# Altium schematic symbol library Common.SchLib: 156 symbols
Pins are listed as number, name and electrical type; pins without a type are passive.

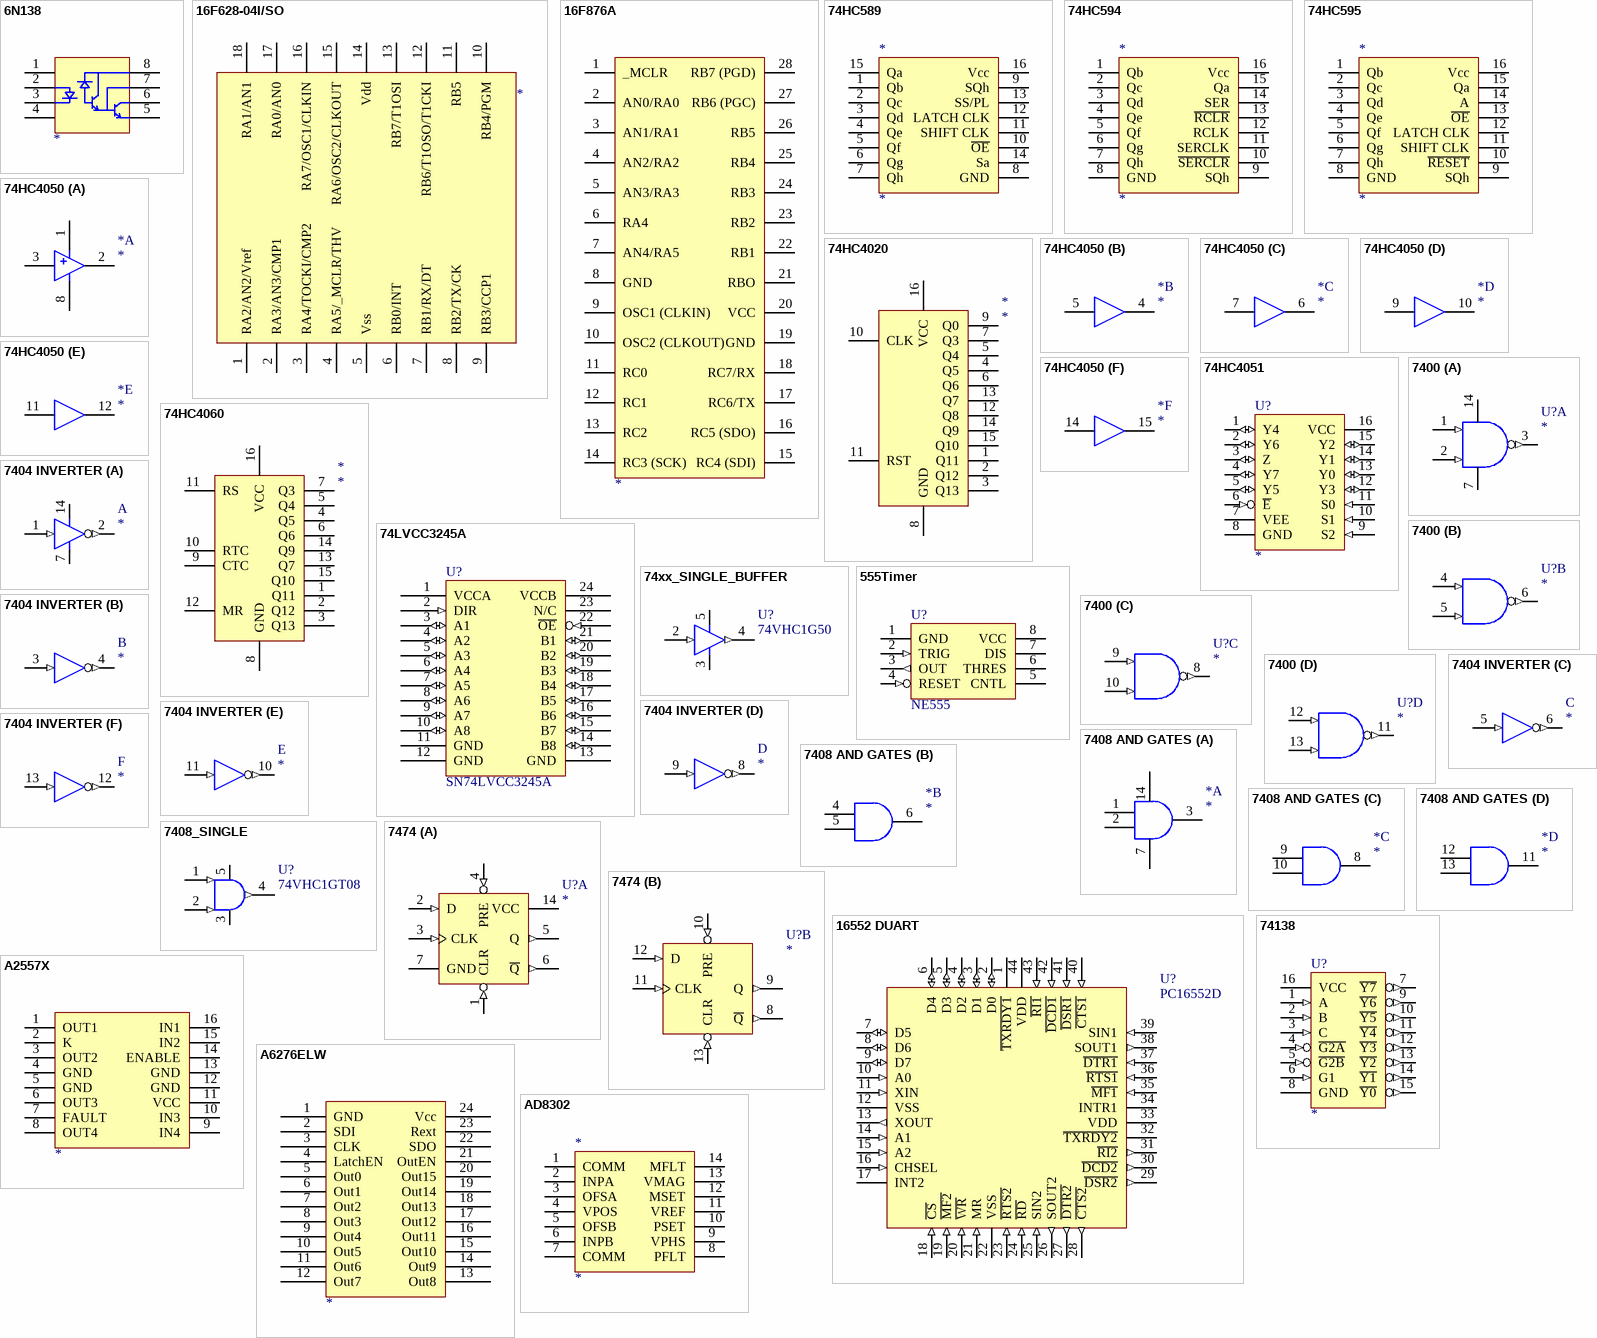
[diagram p0: symbols 6N138 to AD8302]

## 6N138
designator ?
pins: 1, 2, 3, 4, 5, 6, 7, 8

## 16F628-04I/SO
designator ?
pins: 1 RA2/AN2/Vref, 2 RA3/AN3/CMP1, 3 RA4/TOCKI/CMP2, 4 RA5/_MCLR/THV, 5 Vss, 6 RB0/INT, 7 RB1/RX/DT, 8 RB2/TX/CK, 9 RB3/CCP1, 10 RB4/PGM, 11 RB5, 12 RB6/T1OSO/T1CKI, 13 RB7/T1OSI, 14 Vdd, 15 RA6/OSC2/CLKOUT, 16 RA7/OSC1/CLKIN, 17 RA0/AN0, 18 RA1/AN1

## 16F876A
designator ?
pins: 1 _MCLR, 2 AN0/RA0, 3 AN1/RA1, 4 AN2/RA2, 5 AN3/RA3, 6 RA4, 7 AN4/RA5, 8 GND, 9 OSC1 (CLKIN), 10 OSC2 (CLKOUT), 11 RC0, 12 RC1, 13 RC2, 14 RC3 (SCK), 15 RC4 (SDI), 16 RC5 (SDO), 17 RC6/TX, 18 RC7/RX, 19 GND, 20 VCC, 21 RBO, 22 RB1, 23 RB2, 24 RB3, 25 RB4, 26 RB5, 27 RB6 (PGC), 28 RB7 (PGD)

## 74HC589
designator *
pins: 1 Qb, 2 Qc, 3 Qd, 4 Qe, 5 Qf, 6 Qg, 7 Qh, 8 GND, 9 SQh, 10 ~{OE}, 11 SHIFT CLK, 12 LATCH CLK, 13 SS/PL, 14 Sa, 15 Qa, 16 Vcc

## 74HC594
designator *
pins: 1 Qb, 2 Qc, 3 Qd, 4 Qe, 5 Qf, 6 Qg, 7 Qh, 8 GND, 9 SQh, 10 ~{SERCLR}, 11 SERCLK, 12 RCLK, 13 ~{RCLR}, 14 SER, 15 Qa, 16 Vcc

## 74HC595
designator *
pins: 1 Qb, 2 Qc, 3 Qd, 4 Qe, 5 Qf, 6 Qg, 7 Qh, 8 GND, 9 SQh, 10 ~{RESET}, 11 SHIFT CLK, 12 LATCH CLK, 13 ~{OE}, 14 A, 15 Qa, 16 Vcc

## 74HC4020
designator *
pins: 1 Q11, 2 Q12, 3 Q13, 4 Q5, 5 Q4, 6 Q6, 7 Q3, 8 GND, 9 Q0, 10 CLK, 11 RST, 12 Q8, 13 Q7, 14 Q9, 15 Q10, 16 VCC

## 74HC4050
designator *
part A pins: 1, 2, 3, 8
part B pins: 4, 5
part C pins: 6, 7
part D pins: 9, 10
part E pins: 11, 12
part F pins: 14, 15

## 74HC4051
designator U?
PARTNO: CHP-NEW00; VALUE: 74HC4061
footprint Model Name (Footprint not found)
pins: 1 Y4 (io), 2 Y6 (io), 3 Z (io), 4 Y7 (io), 5 Y5 (io), 6 ~{E} (in), 7 VEE (power), 8 GND (power), 9 S2 (in), 10 S1 (in), 11 S0 (in), 12 Y3 (io), 13 Y0 (io), 14 Y1 (io), 15 Y2 (io), 16 VCC (power)

## 74HC4060
designator *
pins: 1 Q11, 2 Q12, 3 Q13, 4 Q5, 5 Q4, 6 Q6, 7 Q3, 8 GND, 9 CTC, 10 RTC, 11 RS, 12 MR, 13 Q7, 14 Q9, 15 Q10, 16 VCC

## 74LVCC3245A
designator U?, comment SN74LVCC3245A
Dual Supply Buffer; VALUE: SN74LVCC3245A; PARTNO: SN74LVCC3245A
pins: 1 VCCA (power), 2 DIR (in), 3 A1 (io), 4 A2 (io), 5 A3 (io), 6 A4 (io), 7 A5 (io), 8 A6 (io), 9 A7 (io), 10 A8 (io), 11 GND (power), 12 GND (power), 13 GND (power), 14 B8 (io), 15 B7 (io), 16 B6 (io), 17 B5 (io), 18 B4 (io), 19 B3 (io), 20 B2 (io), 21 B1 (io), 22 ~{OE} (in), 23 N/C, 24 VCCB (power)

## 74xx_SINGLE_BUFFER
designator U?, comment 74VHC1G50
Single non-inverting buffer; PART NO: 74VHC1G50; VALUE: 74VHC1G50
pins: 2 INA (in), 3 GND (power), 4 OUTY (out), 5 VCC (power)

## 555Timer
designator U?, comment NE555
PARTNO: CHP-????; VALUE: NE555
pins: 1 GND (power), 2 TRIG (in), 3 OUT (out), 4 RESET (in), 5 CNTL, 6 THRES, 7 DIS (oc), 8 VCC (power)

## 7400
designator U?
footprint SO14
part A pins: 1 A (in), 2 B (in), 3 Y (out), 7 GND (power), 14 VCC (power)
part B pins: 4 A (in), 5 B (in), 6 Y (out)
part C pins: 8 Y (out), 9 A (in), 10 B (in)
part D pins: 11 Y (out), 12 A (in), 13 B (in)

## 7404 INVERTER
designator ?
part A pins: 1 IN (in), 2 OUT (out), 7 GND (power), 14 VCC (power)
part B pins: 3 IN (in), 4 OUT (out)
part C pins: 5 IN (in), 6 OUT (out)
part D pins: 8 OUT (out), 9 IN (in)
part E pins: 10 OUT (out), 11 IN (in)
part F pins: 12 OUT (out), 13 IN (in)

## 7408 AND GATES
designator *
part A pins: 1, 2, 3, 7 GND, 14 VCC
part B pins: 4 1, 5 2, 6 3
part C pins: 8 3, 9 1, 10 2
part D pins: 11 3, 12 1, 13 2

## 7408_SINGLE
designator U?, comment value 74VHC1GT08  (hidden comment: Single And Gate)
PART NO: NEW
footprint SOT23-5
pins: 1 INB (in), 2 INA (in), 3 GND (power), 4 OUTY (out), 5 VCC (power)

## 7474
designator U?
74xx74 Flip Flop
footprint SO14
footprint DIP14
part A pins: 1 CLR (in), 2 D (in), 3 CLK (in), 4 PRE (in), 5 Q (out), 6 ~{Q} (out), 7 GND (power), 14 VCC (power)
part B pins: 8 ~{Q} (out), 9 Q (out), 10 PRE (in), 11 CLK (in), 12 D (in), 13 CLR (in)

## 16552 DUART
designator U?, comment PC16552D
PARTNO: CHP-????; VALUE: PC16552D
pins: 1 ~{TXRDY1} (oc), 2 D0 (io), 3 D1 (io), 4 D2 (io), 5 D3 (io), 6 D4 (io), 7 D5 (io), 8 D6 (io), 9 D7 (io), 10 A0 (in), 11 XIN (in), 12 VSS (power), 13 XOUT (out), 14 A1 (in), 15 A2 (in), 16 CHSEL (in), 17 INT2 (oc), 18 ~{CS} (in), 19 ~{MF2} (in), 20 ~{WR} (in), 21 MR (in), 22 VSS (power), 23 ~{RTS2} (in), 24 ~{RD} (in), 25 SIN2 (in), 26 SOUT2 (out), 27 ~{DTR2} (out), 28 ~{CTS2} (out), 29 ~{DSR2} (out), 30 ~{DCD2} (out), 31 ~{RI2} (out), 32 ~{TXRDY2} (oc), 33 VDD (power), 34 INTR1 (oc), 35 ~{MF1} (in), 36 ~{RTS1} (in), 37 ~{DTR1} (in), 38 SOUT1 (out), 39 SIN1 (in), 40 ~{CTS1} (in), 41 ~{DSR1} (in), 42 ~{DCD1} (in), 43 ~{RI1} (in), 44 VDD (power)

## 74138
designator U?
footprint TSSOP16
pins: 1 A (in), 2 B (in), 3 C (in), 4 ~{G2A} (in), 5 ~{G2B} (in), 6 G1 (in), 7 ~{Y7} (out), 8 GND (power), 9 ~{Y6} (out), 10 ~{Y5} (out), 11 ~{Y4} (out), 12 ~{Y3} (out), 13 ~{Y2} (out), 14 ~{Y1} (out), 15 ~{Y0} (out), 16 VCC (power)

## A2557X
designator ?
pins: 1 OUT1, 2 K, 3 OUT2, 4 GND, 5 GND, 6 OUT3, 7 FAULT, 8 OUT4, 9 IN4, 10 IN3, 11 VCC, 12 GND, 13 GND, 14 ENABLE, 15 IN2, 16 IN1

## A6276ELW
designator ?
pins: 1 GND, 2 SDI, 3 CLK, 4 LatchEN, 5 Out0, 6 Out1, 7 Out2, 8 Out3, 9 Out4, 10 Out5, 11 Out6, 12 Out7, 13 Out8, 14 Out9, 15 Out10, 16 Out11, 17 Out12, 18 Out13, 19 Out14, 20 Out15, 21 OutEN, 22 SDO, 23 Rext, 24 Vcc

## AD8302
designator *
pins: 1 COMM, 2 INPA, 3 OFSA, 4 VPOS, 5 OFSB, 6 INPB, 7 COMM, 8 PFLT, 9 VPHS, 10 PSET, 11 VREF, 12 MSET, 13 VMAG, 14 MFLT

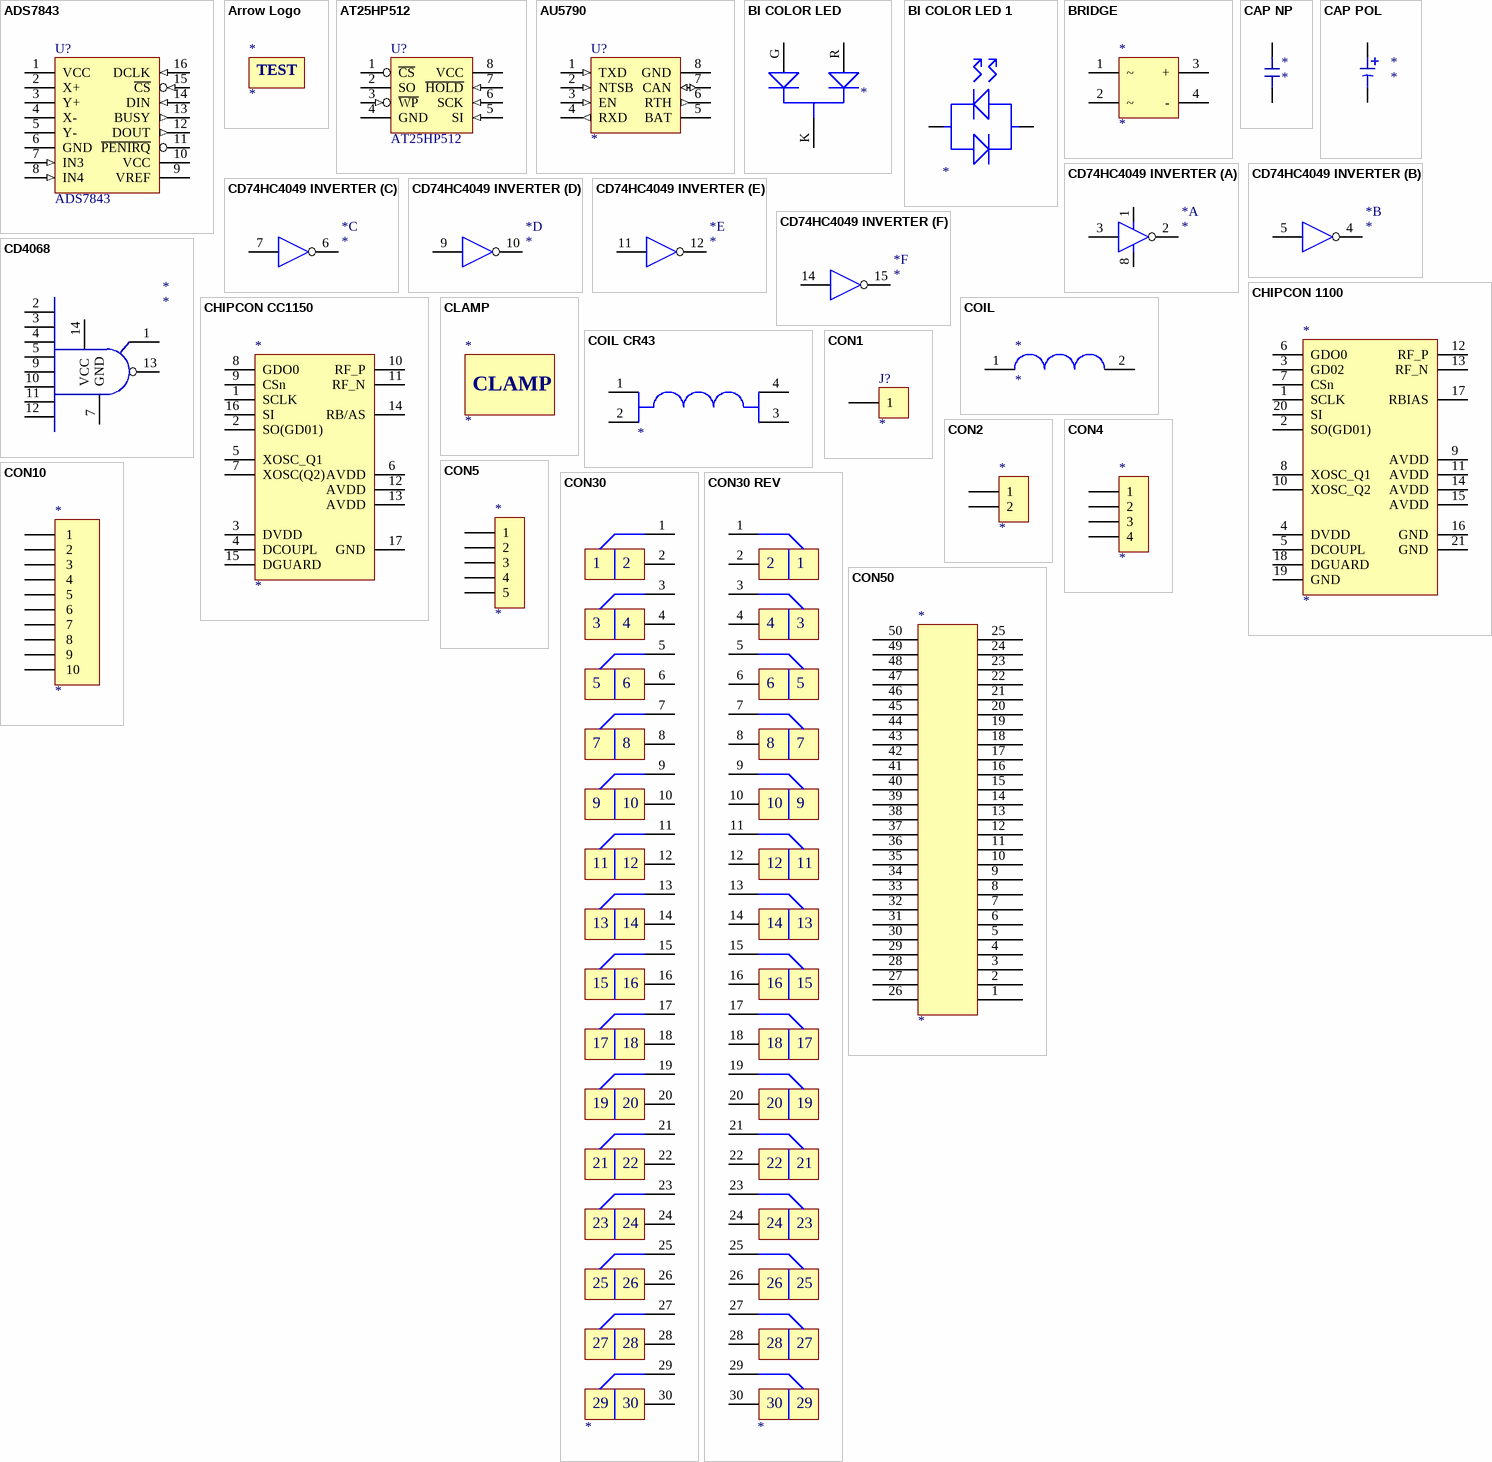
[diagram p1: symbols ADS7843 to CON50]

## ADS7843
designator U?
Touch Screen Controller; VALUE: ADS7843; PARNTO: ADS7843
pins: 1 VCC (power), 2 X+, 3 Y+, 4 X-, 5 Y-, 6 GND (power), 7 IN3 (in), 8 IN4 (in), 9 VREF (power), 10 VCC (power), 11 ~{PENIRQ} (oc), 12 DOUT (out), 13 BUSY (out), 14 DIN (in), 15 ~{CS} (in), 16 DCLK (in)

## Arrow Logo
designator *
text: TEST

## AT25HP512
designator U?
PARTNO: CHP-????; VALUE: AT25HP512
footprint SO8_012105 (SMT)
pins: 1 ~{CS}, 2 SO (oc), 3 ~{WP} (in), 4 GND (power), 5 SI (in), 6 SCK (in), 7 ~{HOLD} (in), 8 VCC (power)

## AU5790
designator U?
footprint SO8
pins: 1 TXD (in), 2 NTSB (in), 3 EN (in), 4 RXD (out), 5 BAT (oc), 6 RTH (out), 7 CAN (io), 8 GND (power)

## BI COLOR LED
designator ?
pins: G, K, R

## BI COLOR LED 1
designator ?
pins: 1, 2

## BRIDGE
designator *
pins: 1 ~, 2 ~, 3 +, 4 -

## CAP NP
designator *
pins: 1, 2

## CAP POL
designator *
pins: 1, 2

## CD74HC4049 INVERTER
designator *
part A pins: 1 VCC (power), 2 OUT, 3 IN, 8 GND (power)
part B pins: 4 OUT, 5 IN
part C pins: 6 OUT, 7 IN
part D pins: 9 IN, 10 OUT
part E pins: 11 IN, 12 OUT
part F pins: 14 IN, 15 OUT

## CD4068
designator *
pins: 1 A, 2 A, 3 A, 4 A, 5 A, 7 GND, 9 A, 10 A, 11 A, 12 A, 13 A, 14 VCC

## CHIPCON 1100
designator *
pins: 1 SCLK, 2 SO(GD01), 3 GD02, 4 DVDD, 5 DCOUPL, 6 GDO0, 7 CSn, 8 XOSC_Q1, 9 AVDD, 10 XOSC_Q2, 11 AVDD, 12 RF_P, 13 RF_N, 14 AVDD, 15 AVDD, 16 GND, 17 RBIAS, 18 DGUARD, 19 GND, 20 SI, 21 GND

## CHIPCON CC1150
designator *
pins: 1 SCLK, 2 SO(GD01), 3 DVDD, 4 DCOUPL, 5 XOSC_Q1, 6 AVDD, 7 XOSC(Q2), 8 GDO0, 9 CSn, 10 RF_P, 11 RF_N, 12 AVDD, 13 AVDD, 14 RB/AS, 15 DGUARD, 16 SI, 17 GND

## CLAMP
designator *
footprint CLAMP MCMASTER CARR 5126A21 (TH)

## COIL
designator *
pins: 1, 2

## COIL CR43
designator ?
pins: 1, 2, 3, 4

## CON1
designator J?
Connector
pins: 1

## CON2
designator *
pins: 1, 2

## CON4
designator *
pins: 1, 2, 3, 4

## CON5
designator *
pins: 1, 2, 3, 4, 5

## CON10
designator *
pins: 1  1, 2  2, 3  3, 4  4, 5  5, 6  6, 7  7, 8  8, 9  9, 10  10

## CON30
designator ?
pins: 1, 2, 3, 4, 5, 6, 7, 8, 9, 10, 11, 12, 13, 14, 15, 16, 17, 18, 19, 20, 21, 22, 23, 24, 25, 26, 27, 28, 29, 30

## CON30 REV
designator ?
pins: 1, 2, 3, 4, 5, 6, 7, 8, 9, 10, 11, 12, 13, 14, 15, 16, 17, 18, 19, 20, 21, 22, 23, 24, 25, 26, 27, 28, 29, 30

## CON50
designator *
pins: 1, 2, 3, 4, 5, 6, 7, 8, 9, 10, 11, 12, 13, 14, 15, 16, 17, 18, 19, 20, 21, 22, 23, 24, 25, 26, 27, 28, 29, 30, 31, 32, 33, 34, 35, 36, 37, 38, 39, 40, 41, 42, 43, 44, 45, 46, 47, 48, 49, 50

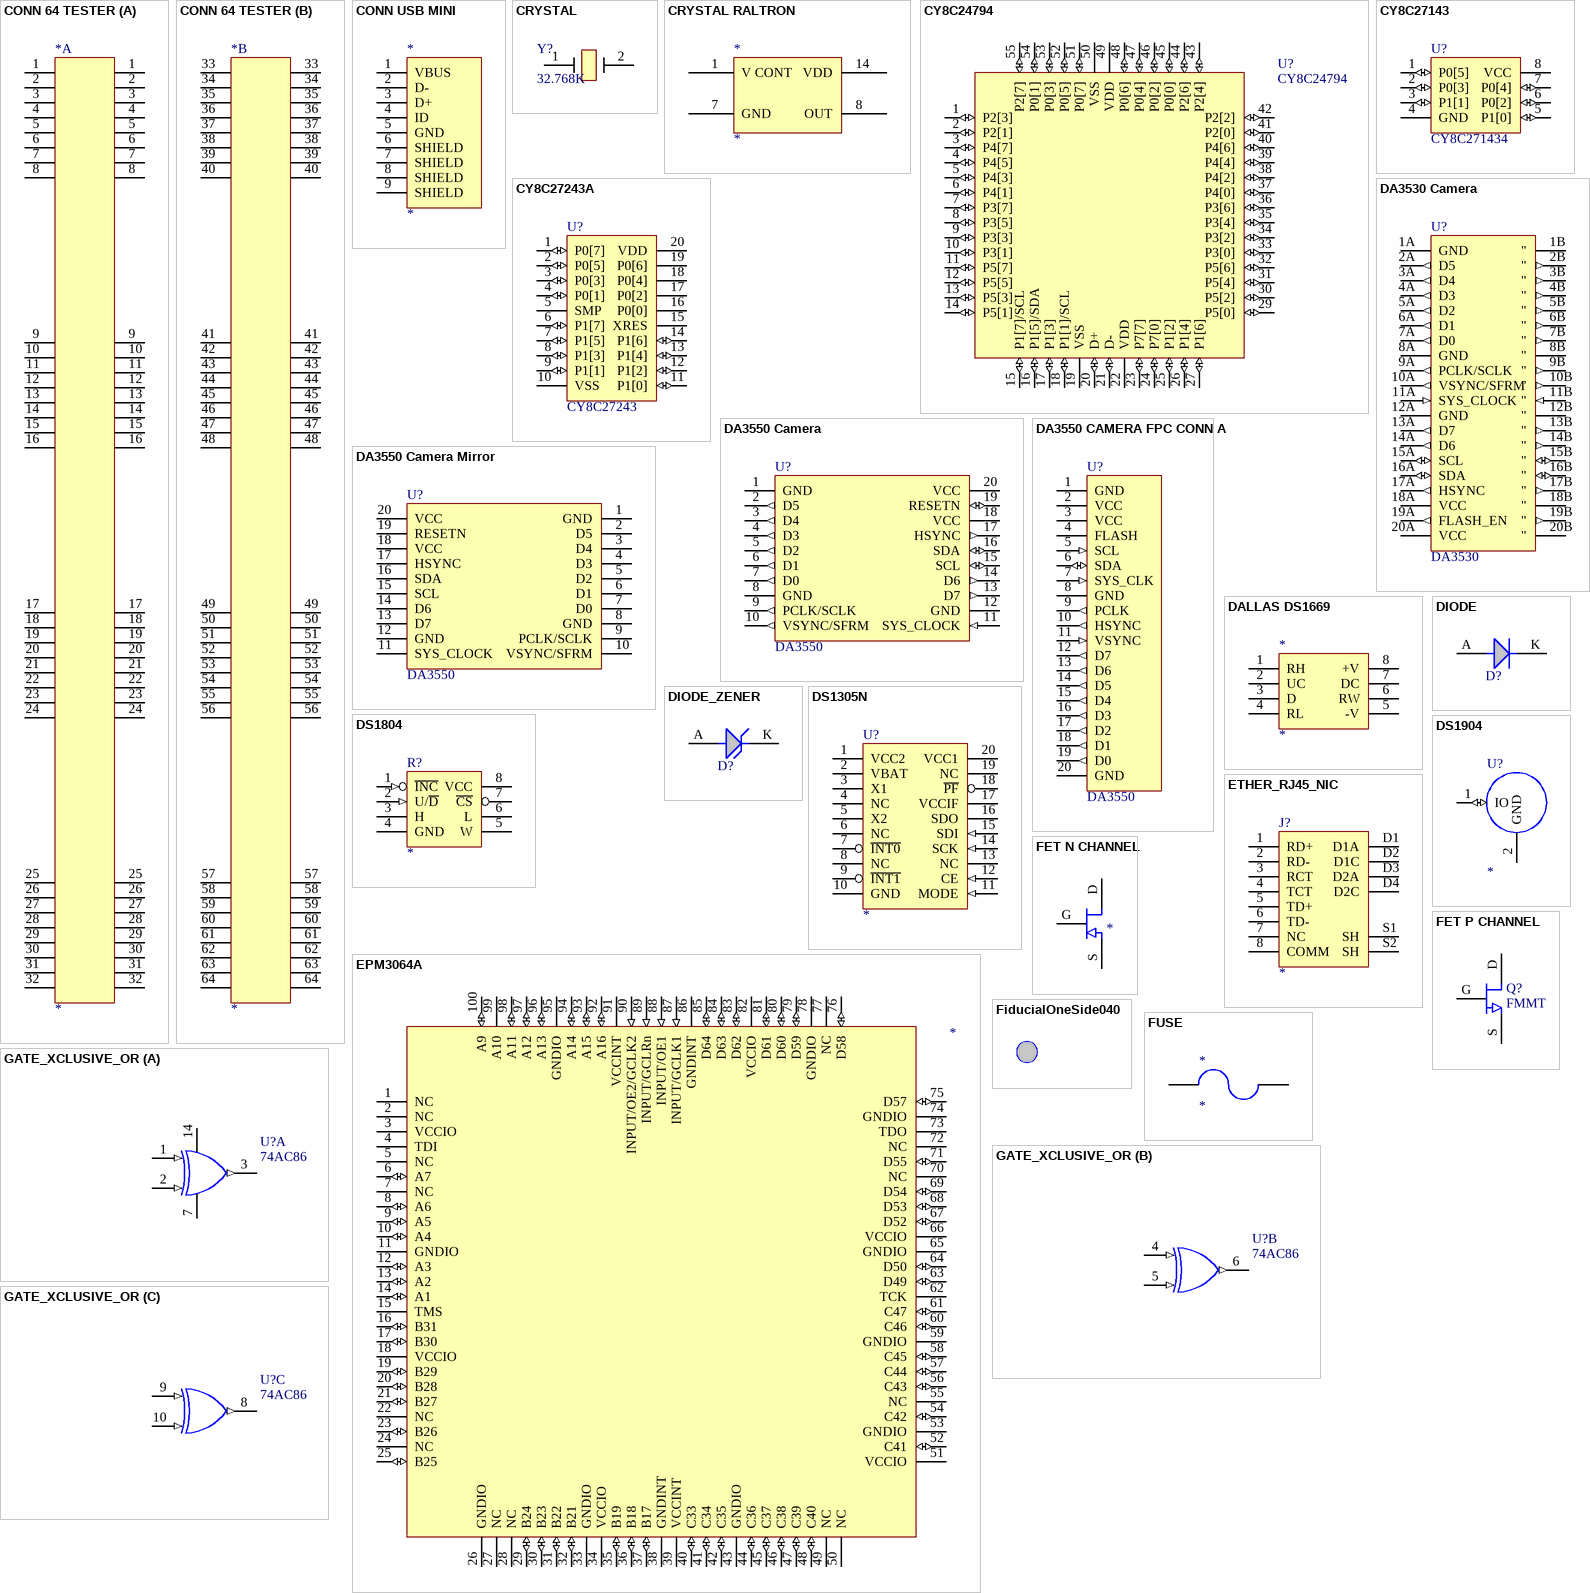
[diagram p2: symbols CONN 64 TESTER to GATE_XCLUSIVE_OR]

## CONN 64 TESTER
designator *
part A pins: 1, 1, 2, 2, 3, 3, 4, 4, 5, 5, 6, 6, 7, 7, 8, 8, 9, 9, 10, 10, 11, 11, 12, 12, 13, 13, 14, 14, 15, 15, 16, 16, 17, 17, 18, 18, 19, 19, 20, 20, 21, 21, 22, 22, 23, 23, 24, 24, 25, 25, 26, 26, 27, 27, 28, 28, 29, 29, 30, 30, 31, 31, 32, 32
part B pins: 33, 33, 34, 34, 35, 35, 36, 36, 37, 37, 38, 38, 39, 39, 40, 40, 41, 41, 42, 42, 43, 43, 44, 44, 45, 45, 46, 46, 47, 47, 48, 48, 49, 49, 50, 50, 51, 51, 52, 52, 53, 53, 54, 54, 55, 55, 56, 56, 57, 57, 58, 58, 59, 59, 60, 60, 61, 61, 62, 62, 63, 63, 64, 64

## CONN USB MINI
designator *
pins: 1 VBUS, 2 D-, 3 D+, 4 ID, 5 GND, 6 SHIELD, 7 SHIELD, 8 SHIELD, 9 SHIELD

## CRYSTAL
designator Y?, comment 32.768K
VALUE: 32.768K
footprint Crystal32k_2mmx1.2mm_112211 (SM)
pins: 1, 2

## CRYSTAL RALTRON
designator *
pins: 1 V CONT, 7 GND, 8 OUT, 14 VDD

## CY8C24794
designator U?
PARTNO: CHP-????; VALUE: CY8C24794
pins: 1 P2[3] (io), 2 P2[1] (io), 3 P4[7] (io), 4 P4[5] (io), 5 P4[3] (io), 6 P4[1] (io), 7 P3[7] (io), 8 P3[5] (io), 9 P3[3] (io), 10 P3[1] (io), 11 P5[7] (io), 12 P5[5] (io), 13 P5[3] (io), 14 P5[1] (io), 15 P1[7]/SCL (io), 16 P1[5]/SDA (io), 17 P1[3] (io), 18 P1[1]/SCL (io), 19 VSS (power), 20 D+ (io), 21 D- (io), 22 VDD (power), 23 P7[7] (io), 24 P7[0] (io), 25 P1[2] (io), 26 P1[4] (io), 27 P1[6] (io), 29 P5[0] (io), 30 P5[2] (io), 31 P5[4] (io), 32 P5[6] (io), 33 P3[0] (io), 34 P3[2] (io), 35 P3[4] (io), 36 P3[6] (io), 37 P4[0] (io), 38 P4[2] (io), 39 P4[4] (io), 40 P4[6] (io), 41 P2[0] (io), 42 P2[2] (io), 43 P2[4] (io), 44 P2[6] (io), 45 P0[0] (io), 46 P0[2] (io), 47 P0[4] (io), 48 P0[6] (io), 49 VDD (power), 50 VSS (power), 51 P0[7] (io), 52 P0[5] (io), 53 P0[3] (io), 54 P0[1] (io), 55 P2[7] (io)

## CY8C27143
designator U?  value CY8C271434  (hidden comment: CY8C27143)
PART NO: CHP-1176
pins: 1 P0[5] (io), 2 P0[3] (io), 3 P1[1] (io), 4 GND (power), 5 P1[0] (io), 6 P0[2] (io), 7 P0[4] (io), 8 VCC (power)

## CY8C27243A
designator U?, comment CY8C27243
PART NO: CY8C27243; VALUE: CY8C27243
footprint TSSOP20
footprint SO20
pins: 1 P0[7] (io), 2 P0[5] (io), 3 P0[3] (io), 4 P0[1] (io), 5 SMP, 6 P1[7] (io), 7 P1[5] (io), 8 P1[3] (io), 9 P1[1] (io), 10 VSS (power), 11 P1[0] (io), 12 P1[2] (io), 13 P1[4] (io), 14 P1[6] (io), 15 XRES, 16 P0[0], 17 P0[2], 18 P0[4], 19 P0[6], 20 VDD (power)

## DA3530 Camera
designator U?, comment DA3530
VALUE: DA3530; PARTNO: DA3530
pins: 1A GND (power), 1B " (power), 2A D5 (out), 2B " (out), 3A D4 (out), 3B " (out), 4A D3 (out), 4B " (out), 5A D2 (out), 5B " (out), 6A D1 (out), 6B " (out), 7A D0 (out), 7B " (out), 8A GND (power), 8B " (power), 9A PCLK/SCLK (out), 9B " (out), 10A VSYNC/SFRM (out), 10B " (out), 11A SYS_CLOCK (in), 11B " (in), 12A GND (power), 12B " (power), 13A D7 (out), 13B " (out), 14A D6 (out), 14B " (out), 15A SCL (io), 15B " (io), 16A SDA (io), 16B " (io), 17A HSYNC (out), 17B " (out), 18A VCC (power), 18B " (power), 19A FLASH_EN (out), 19B " (out), 20A VCC (power), 20B " (power)

## DA3550 Camera
designator U?, comment DA3550
PARTNO: DA3550; VALUE: DA3550
pins: 1 GND (power), 2 D5 (out), 3 D4 (out), 4 D3 (out), 5 D2 (out), 6 D1 (out), 7 D0 (out), 8 GND (power), 9 PCLK/SCLK (out), 10 VSYNC/SFRM (out), 11 SYS_CLOCK (in), 12 GND (power), 13 D7 (out), 14 D6 (out), 15 SCL (io), 16 SDA (io), 17 HSYNC (out), 18 VCC (power), 19 RESETN (io), 20 VCC (power)

## DA3550 CAMERA FPC CONN A
designator U?, comment DA3550
PARTNO: DA3550; VALUE: DA3550
footprint FPC20_0.5 (Footprint not found)
pins: 1 GND (power), 2 VCC (power), 3 VCC (power), 4 FLASH, 5 SCL (in), 6 SDA (io), 7 SYS_CLK (in), 8 GND (power), 9 PCLK (out), 10 HSYNC (out), 11 VSYNC (in), 12 D7 (out), 13 D6 (out), 14 D5 (out), 15 D4 (out), 16 D3 (out), 17 D2 (out), 18 D1 (out), 19 D0 (out), 20 GND (power)

## DA3550 Camera Mirror
designator U?, comment DA3550
PARTNO: DA3550; VALUE: DA3550
pins: 1 GND (power), 2 D5, 3 D4, 4 D3, 5 D2, 6 D1, 7 D0, 8 GND (power), 9 PCLK/SCLK, 10 VSYNC/SFRM, 11 SYS_CLOCK, 12 GND (power), 13 D7, 14 D6, 15 SCL, 16 SDA, 17 HSYNC, 18 VCC (power), 19 RESETN, 20 VCC (power)

## DALLAS DS1669
designator *
pins: 1 RH, 2 UC, 3 D, 4 RL, 5 -V, 6 RW, 7 DC, 8 +V

## DIODE
designator D?  (value not drawn)
pins: A, K

## DIODE_ZENER
designator D?, comment DIODE  (value not drawn)
pins: A, K

## DS1305N
designator U?
footprint TSSOP20
pins: 1 VCC2 (power), 2 VBAT (power), 3 X1, 4 NC, 5 X2, 6 NC, 7 ~{INT0} (oc), 8 NC, 9 ~{INT1} (oc), 10 GND (power), 11 MODE (in), 12 CE (in), 13 NC, 14 SCK (in), 15 SDI (in), 16 SDO (hiz), 17 VCCIF (power), 18 ~{PF} (oc), 19 NC, 20 VCC1 (power)

## DS1804
designator R?
footprint SO8
pins: 1 ~{INC} (in), 2 U/~{D} (in), 3 H, 4 GND (power), 5 W, 6 L, 7 ~{CS}, 8 VCC (power)

## DS1904
designator U?
footprint IBUTTON
pins: 1 IO (io), 2 GND (power)

## EPM3064A
designator ?
pins: 1 NC, 2 NC, 3 VCCIO (power), 4 TDI, 5 NC, 6 A7 (io), 7 NC, 8 A6 (io), 9 A5 (io), 10 A4 (io), 11 GNDIO (power), 12 A3 (io), 13 A2 (io), 14 A1 (io), 15 TMS, 16 B31 (io), 17 B30 (io), 18 VCCIO (power), 19 B29 (io), 20 B28 (io), 21 B27 (io), 22 NC, 23 B26 (io), 24 NC, 25 B25 (io), 26 GNDIO (power), 27 NC, 28 NC, 29 B24 (io), 30 B23 (io), 31 B22 (io), 32 B21 (io), 33 GNDIO (power), 34 VCCIO (power), 35 B19 (io), 36 B18 (io), 37 B17 (io), 38 GNDINT (power), 39 VCCINT (power), 40 C33 (io), 41 C34 (io), 42 C35 (io), 43 GNDIO (power), 44 C36 (io), 45 C37 (io), 46 C38 (io), 47 C39 (io), 48 C40 (io), 49 NC, 50 NC, 51 VCCIO (power), 52 C41 (io), 53 GNDIO, 54 C42 (io), 55 NC, 56 C43 (io), 57 C44 (io), 58 C45 (io), 59 GNDIO (power), 60 C46 (io), 61 C47 (io), 62 TCK, 63 D49 (io), 64 D50 (io), 65 GNDIO (power), 66 VCCIO (power), 67 D52 (io), 68 D53 (io), 69 D54 (io), 70 NC, 71 D55 (io), 72 NC, 73 TDO, 74 GNDIO (power), 75 D57 (io), 76 D58 (io), 77 NC, 78 GNDIO (power), 79 D59 (io), 80 D60 (io), 81 D61 (io), 82 VCCIO (power), 83 D62 (io), 84 D63 (io), 85 D64 (io), 86 GNDINT (power), 87 INPUT/GCLK1 (in), 88 INPUT/OE1 (in), 89 INPUT/GCLRn (in), 90 INPUT/OE2/GCLK2 (in), 91 VCCINT (power), 92 A16 (io), 93 A15 (io), 94 A14 (io), 95 GNDIO (power), 96 A13 (io), 97 A12 (io), 98 A11 (io), 99 A10, 100 A9 (io)

## ETHER_RJ45_NIC
designator J?
pins: 1 RD+, 2 RD-, 3 RCT, 4 TCT, 5 TD+, 6 TD-, 7 NC, 8 COMM (power), D1 D1A, D2 D1C, D3 D2A, D4 D2C, S1 SH, S2 SH

## FET N CHANNEL
designator ?
pins: D, G, S

## FET P CHANNEL
designator Q?, comment FMMT
PARTNO: FMMT; VALUE: FMMT
pins: D, G, S

## FiducialOneSide040
designator FID?  (value not drawn)
PARTNO: N/A; VALUE: N/A
footprint FiducialOneSide_011905 (FEATURE SMT PCB)
pins: 0

## FUSE
designator *
pins: 1, 2

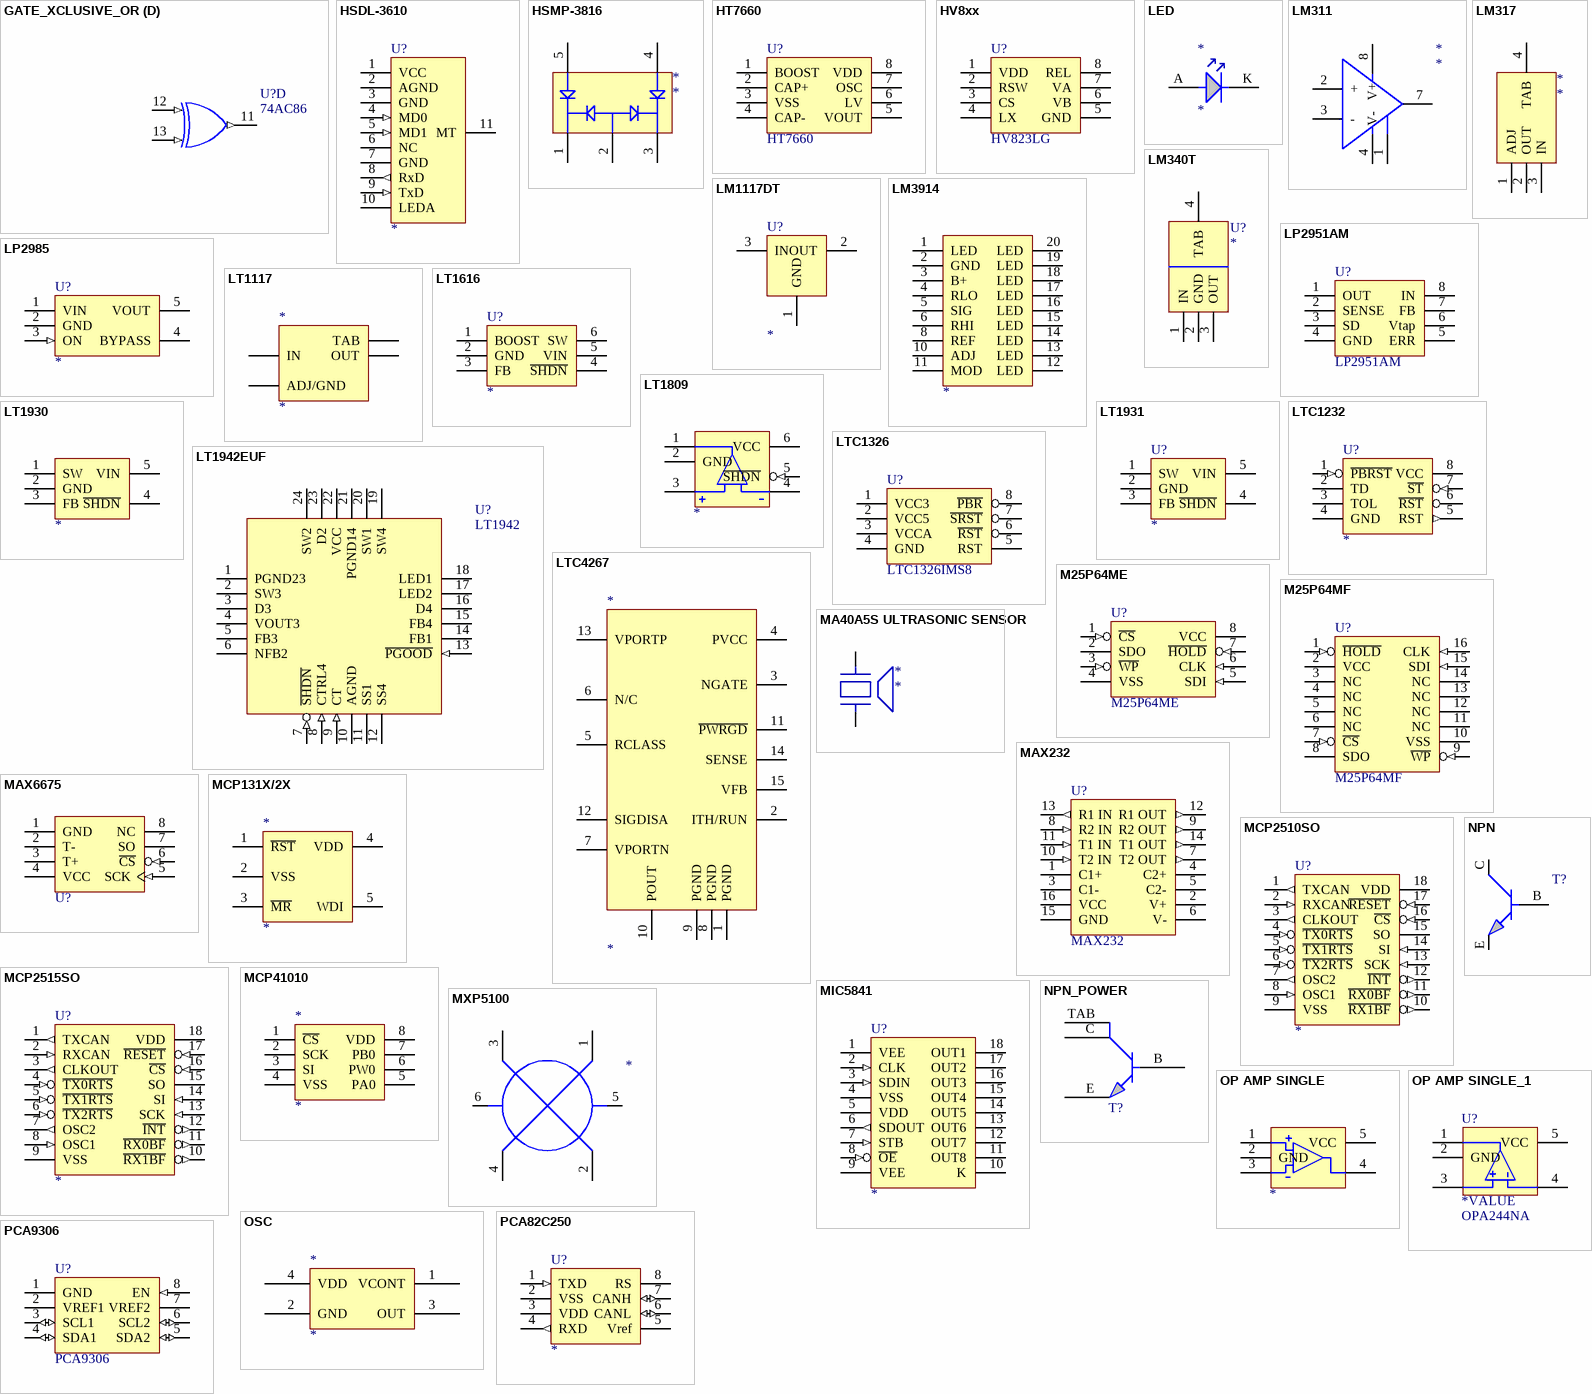
[diagram p3: symbols GATE_XCLUSIVE_OR to PCA9306]

## GATE_XCLUSIVE_OR
designator U?, comment value 74AC86  (hidden comment: XOR)
part A pins: 1 1A (in), 2 1B (in), 3 1Y (out), 7 GND (power), 14 VCC (power)
part B pins: 4 1A (in), 5 1B (in), 6 1Y (out)
part C pins: 8 1Y (out), 9 1A (in), 10 1B (in)
part D pins: 11 1Y (out), 12 1A (in), 13 1B (in)

## HSDL-3610
designator U?
footprint HSDL_FRONT
pins: 1 VCC (power), 2 AGND (power), 3 GND (power), 4 MD0 (in), 5 MD1 (in), 6 NC, 7 GND (power), 8 RxD (out), 9 TxD (in), 10 LEDA, 11 MT

## HSMP-3816
designator *
pins: 1, 2, 3, 4, 5

## HT7660
designator U?
PARTNO: CHP-????; VALUE: HT7660
footprint SO8_012105 (SMT)
pins: 1 BOOST, 2 CAP+, 3 VSS (power), 4 CAP-, 5 VOUT (power), 6 LV, 7 OSC, 8 VDD (power)

## HV8xx
designator U?, comment value HV823LG  (hidden comment: EL Lamp Driver)
PART NO: NEW
footprint SO8
pins: 1 VDD (power), 2 RSW, 3 CS, 4 LX, 5 GND (power), 6 VB, 7 VA, 8 REL

## LED
designator *
pins: A, K

## LM311
designator *
pins: 1, 2 +, 3 -, 4 V-, 7, 8 V+

## LM317
designator *
pins: 1 ADJ (power), 2 OUT, 3 IN, 4 TAB

## LM340T
designator U?
footprint TO220
pins: 1 IN (power), 2 GND, 3 OUT, 4 TAB

## LM1117DT
designator U?
footprint TO252
pins: 1 GND (power), 2 OUT (power), 3 IN (power)

## LM3914
designator ?
pins: 1 LED, 2 GND, 3 B+, 4 RLO, 5 SIG, 6 RHI, 8 REF, 10 ADJ, 11 MOD, 12 LED, 13 LED, 14 LED, 15 LED, 16 LED, 17 LED, 18 LED, 19 LED, 20 LED

## LP2951AM
designator U?
PARTNO: CHP-????; VALUE: LP2951AM
footprint SO8_012105 (SMT)
pins: 1 OUT (power), 2 SENSE, 3 SD, 4 GND (power), 5 ERR (oc), 6 Vtap, 7 FB, 8 IN (power)

## LP2985
designator U?
footprint SOT23-5
pins: 1 VIN (power), 2 GND (power), 3 ON (in), 4 BYPASS, 5 VOUT (power)

## LT1117
designator *
pins: GND ADJ/GND, IN, OUT, TAB

## LT1616
designator U?
footprint SOT23-6
pins: 1 BOOST (oc), 2 GND (power), 3 FB, 4 ~{SHDN}, 5 VIN (power), 6 SW (oc)

## LT1809
designator ?
pins: 1, 2 GND (power), 3, 4, 5 ~{SHDN} (in), 6 VCC (power)

## LT1930
designator ?
pins: 1 SW (oc), 2 GND (power), 3 FB, 4 ~{SHDN}, 5 VIN (power)

## LT1931
designator U?
footprint SOT23-5
pins: 1 SW (oc), 2 GND (power), 3 FB, 4 ~{SHDN}, 5 VIN (power)

## LT1942EUF
designator U?, comment LT1942
PARTNO: LT1942EUF; VALUE: LT1942
footprint QFN24 (Footprint not found)
pins: 1 PGND23 (power), 2 SW3 (oc), 3 D3, 4 VOUT3 (power), 5 FB3, 6 NFB2, 7 ~{SHDN} (in), 8 CTRL4 (in), 9 CT (in), 10 AGND (power), 11 SS1, 12 SS4, 13 ~{PGOOD} (in), 14 FB1, 15 FB4, 16 D4, 17 LED2 (oc), 18 LED1 (oc), 19 SW4 (oc), 20 SW1 (oc), 21 PGND14 (power), 22 VCC (power), 23 D2, 24 SW2 (oc)

## LTC1232
designator U?
LTC1232
footprint SO8
pins: 1 ~{PBRST} (in), 2 TD, 3 TOL, 4 GND (power), 5 RST (out), 6 ~{RST} (oc), 7 ~{ST} (in), 8 VCC (power)

## LTC1326
designator U?, comment LTC1326IMS8
PARTNO: LTC1326IMS8; VALUE: LTC1326IMS8
pins: 1 VCC3 (power), 2 VCC5 (power), 3 VCCA (power), 4 GND (power), 5 RST (power), 6 ~{RST} (power), 7 ~{SRST} (power), 8 ~{PBR} (power)

## LTC4267
designator *
pins: 1 PGND, 2 ITH/RUN, 3 NGATE, 4 PVCC, 5 RCLASS, 6 N/C, 7 VPORTN, 8 PGND, 9 PGND, 10 POUT, 11 ~{PWRGD}, 12 SIGDISA, 13 VPORTP, 14 SENSE, 15 VFB

## M25P64ME
designator U?
PARTNO: M25P64ME; VALUE: M25P64ME
footprint SO8ME (Footprint not found)
pins: 1 ~{CS} (in), 2 SDO (hiz), 3 ~{WP} (in), 4 VSS (power), 5 SDI (in), 6 CLK (in), 7 ~{HOLD} (in), 8 VCC (power)

## M25P64MF
designator U?
PARTNO: M25P64MF; VALUE: M25P64MF
footprint SO16MF (Footprint not found)
pins: 1 ~{HOLD} (in), 2 VCC (power), 3 NC, 4 NC, 5 NC, 6 NC, 7 ~{CS} (in), 8 SDO (hiz), 9 ~{WP} (in), 10 VSS (power), 11 NC (power), 12 NC (power), 13 NC (power), 14 NC (power), 15 SDI (in), 16 CLK (in)

## MA40A5S ULTRASONIC SENSOR
designator *
pins: 1  , 2  

## MAX232
designator U?
PARTNO: CHP-NEW____; VALUE: MAX232
pins: 1 C1+, 2 V+, 3 C1-, 4 C2+, 5 C2-, 6 V-, 7 T2 OUT (out), 8 R2 IN (in), 9 R2 OUT (out), 10 T2 IN (in), 11 T1 IN (in), 12 R1 OUT (out), 13 R1 IN (out), 14 T1 OUT (out), 15 GND (power), 16 VCC (power)

## MAX6675
designator U?  (value not drawn)
MAX6675
footprint SO8
pins: 1 GND (power), 2 T-, 3 T+, 4 VCC (power), 5 SCK (in), 6 ~{CS} (in), 7 SO (hiz), 8 NC

## MCP131X/2X
designator *
pins: 1 ~{RST}, 2 VSS, 3 ~{MR}, 4 VDD, 5 WDI

## MCP2510SO
designator U?
footprint SO18
pins: 1 TXCAN (out), 2 RXCAN (in), 3 CLKOUT (out), 4 ~{TX0RTS} (in), 5 ~{TX1RTS} (in), 6 ~{TX2RTS} (in), 7 OSC2 (out), 8 OSC1 (in), 9 VSS (power), 10 ~{RX1BF} (out), 11 ~{RX0BF} (out), 12 ~{INT} (out), 13 SCK (in), 14 SI (in), 15 SO (oc), 16 ~{CS} (in), 17 ~{RESET} (in), 18 VDD (power)

## MCP2515SO
designator U?
MCP2515SO
footprint SO18
pins: 1 TXCAN (out), 2 RXCAN (in), 3 CLKOUT (out), 4 ~{TX0RTS} (in), 5 ~{TX1RTS} (in), 6 ~{TX2RTS} (in), 7 OSC2 (out), 8 OSC1 (in), 9 VSS (power), 10 ~{RX1BF} (out), 11 ~{RX0BF} (out), 12 ~{INT} (out), 13 SCK (in), 14 SI (in), 15 SO (oc), 16 ~{CS} (in), 17 ~{RESET} (in), 18 VDD (power)

## MCP41010
designator *
pins: 1 ~{CS}, 2 SCK, 3 SI, 4 VSS, 5 PA0, 6 PW0, 7 PB0, 8 VDD

## MIC5841
designator U?
footprint SO18W
pins: 1 VEE (power), 2 CLK (in), 3 SDIN (in), 4 VSS (power), 5 VDD (power), 6 SDOUT (out), 7 STB (in), 8 ~{OE} (in), 9 VEE (power), 10 K, 11 OUT8 (oc), 12 OUT7 (oc), 13 OUT6 (oc), 14 OUT5 (oc), 15 OUT4 (oc), 16 OUT3 (oc), 17 OUT2 (oc), 18 OUT1 (oc)

## MXP5100
designator ?
pins: 1, 2, 3, 4, 5, 6

## NPN
designator T?  (value not drawn)
pins: B, C, E

## NPN_POWER
designator T?, comment NPN  (value not drawn)
pins: B, C, E, TAB

## OP AMP SINGLE
designator ?
pins: 1, 2 GND (power), 3, 4, 5 VCC (power)

## OP AMP SINGLE_1
designator U?, comment *VALUE  value OPA244NA
PART NO: NEW
footprint SOT23-5
pins: 1, 2 GND (power), 3, 4, 5 VCC (power)

## OSC
designator *
pins: 1 VCONT, 2 GND, 3 OUT, 4 VDD

## PCA82C250
designator U?
footprint SO8
pins: 1 TXD (in), 2 VSS (power), 3 VDD (power), 4 RXD (out), 5 Vref (oc), 6 CANL (io), 7 CANH (io), 8 RS

## PCA9306
designator U?
I2C Level Translator; PARTNO: PCA9306; VALUE: PCA9306
pins: 1 GND (power), 2 VREF1 (power), 3 SCL1 (io), 4 SDA1 (io), 5 SDA2 (io), 6 SCL2 (io), 7 VREF2 (power), 8 EN (in)

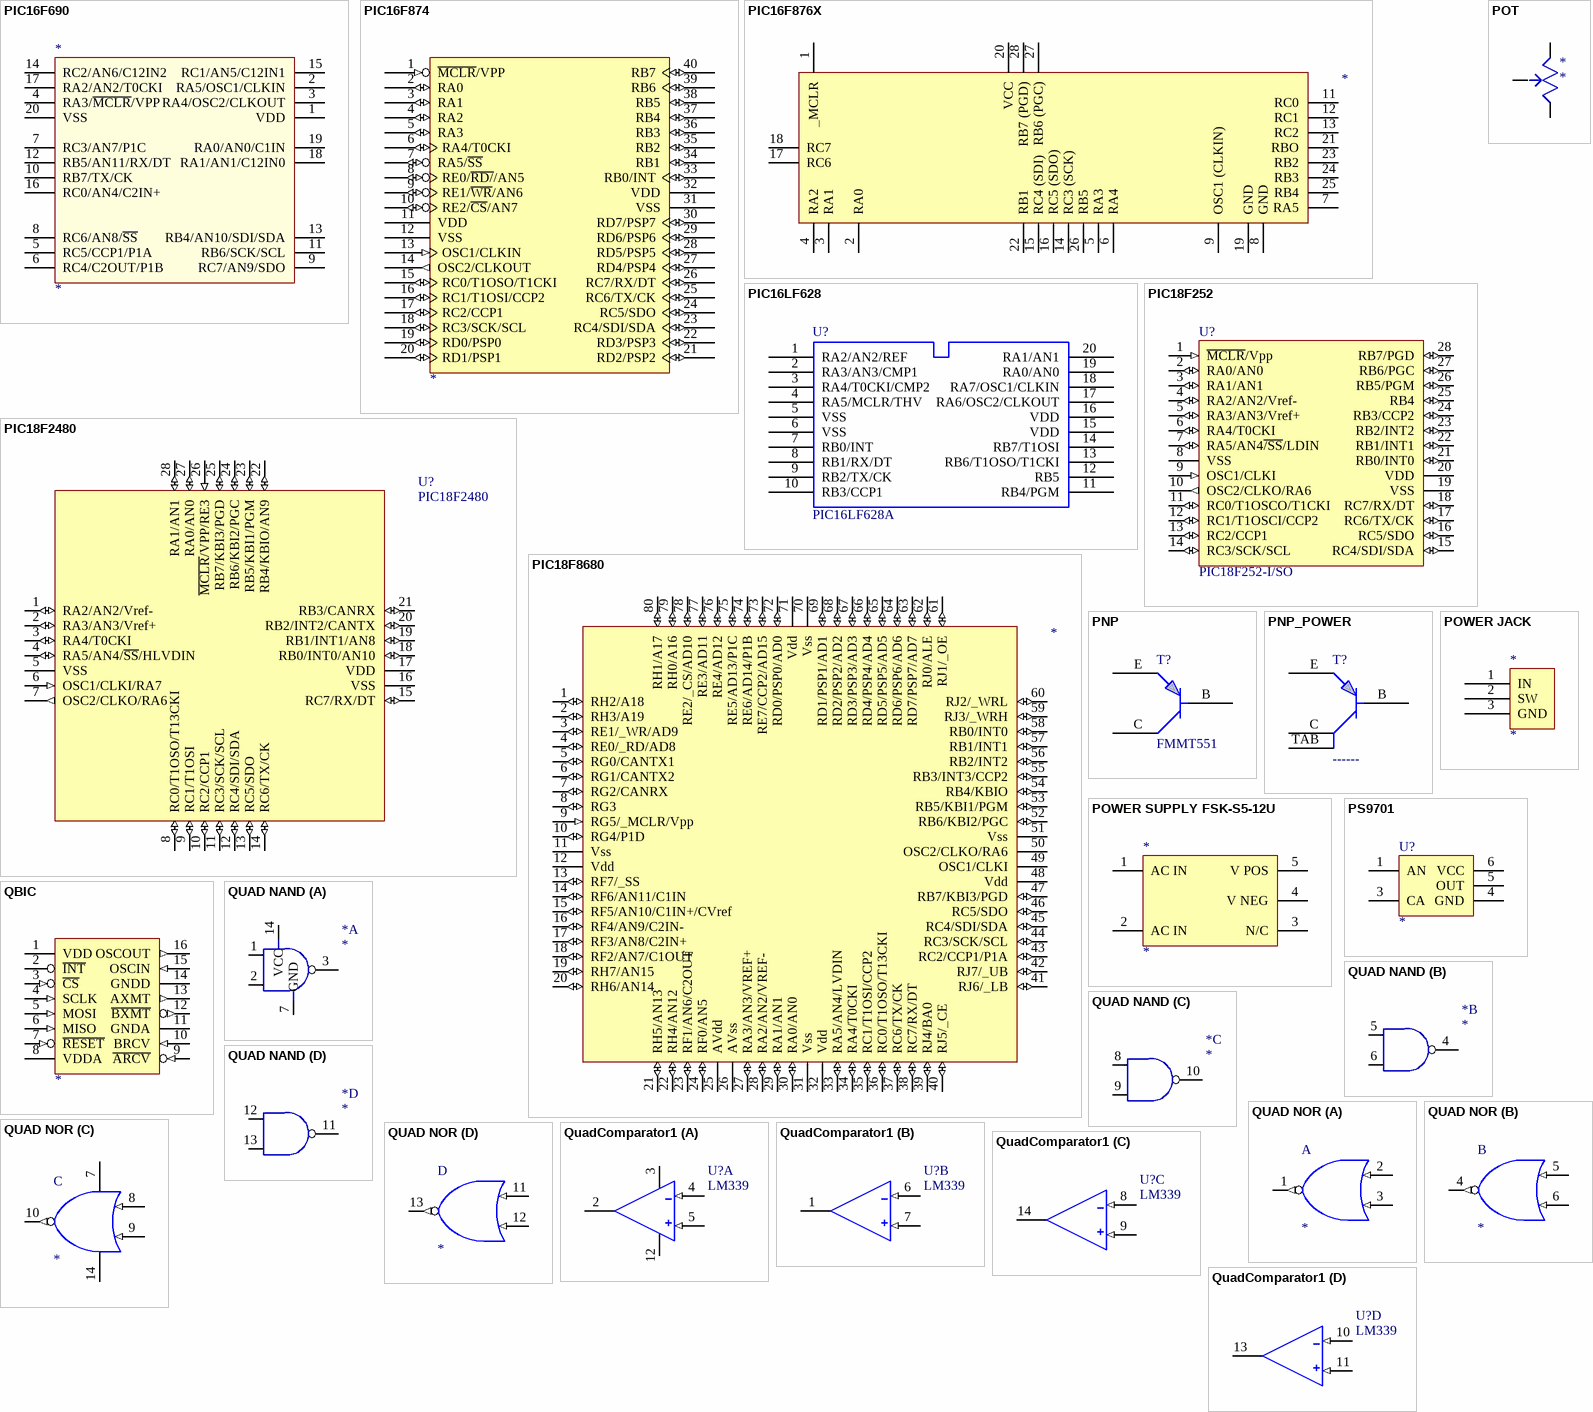
[diagram p4: symbols PIC16F690 to QuadComparator1]

## PIC16F690
designator *
pins: 1 VDD, 2 RA5/OSC1/CLKIN, 3 RA4/OSC2/CLKOUT, 4 RA3/~{MCLR}/VPP, 5 RC5/CCP1/P1A, 6 RC4/C2OUT/P1B, 7 RC3/AN7/P1C, 8 RC6/AN8/~{SS}, 9 RC7/AN9/SDO, 10 RB7/TX/CK, 11 RB6/SCK/SCL, 12 RB5/AN11/RX/DT, 13 RB4/AN10/SDI/SDA, 14 RC2/AN6/C12IN2, 15 RC1/AN5/C12IN1, 16 RC0/AN4/C2IN+, 17 RA2/AN2/T0CKI, 18 RA1/AN1/C12IN0, 19 RA0/AN0/C1IN, 20 VSS

## PIC16F874
designator ?
pins: 1 ~{MCLR}/VPP (in), 2 RA0 (io), 3 RA1 (io), 4 RA2 (io), 5 RA3 (io), 6 RA4/T0CKI (io), 7 RA5/~{SS} (io), 8 RE0/~{RD/}/AN5 (io), 9 RE1/~{WR}/AN6 (io), 10 RE2/~{CS}/AN7 (io), 11 VDD, 12 VSS, 13 OSC1/CLKIN (in), 14 OSC2/CLKOUT (out), 15 RC0/T1OSO/T1CKI (io), 16 RC1/T1OSI/CCP2 (io), 17 RC2/CCP1 (io), 18 RC3/SCK/SCL (io), 19 RD0/PSP0 (io), 20 RD1/PSP1 (io), 21 RD2/PSP2 (io), 22 RD3/PSP3 (io), 23 RC4/SDI/SDA (io), 24 RC5/SDO (io), 25 RC6/TX/CK (io), 26 RC7/RX/DT (io), 27 RD4/PSP4 (io), 28 RD5/PSP5 (io), 29 RD6/PSP6 (io), 30 RD7/PSP7 (io), 31 VSS, 32 VDD, 33 RB0/INT (io), 34 RB1 (io), 35 RB2 (io), 36 RB3 (io), 37 RB4 (io), 38 RB5 (io), 39 RB6 (io), 40 RB7 (io)

## PIC16F876X
designator ?
pins: 1 _MCLR, 2 RA0, 3 RA1, 4 RA2, 5 RA3, 6 RA4, 7 RA5, 8 GND, 9 OSC1 (CLKIN), 11 RC0, 12 RC1, 13 RC2, 14 RC3 (SCK), 15 RC4 (SDI), 16 RC5 (SDO), 17 RC6, 18 RC7, 19 GND, 20 VCC, 21 RBO, 22 RB1, 23 RB2, 24 RB3, 25 RB4, 26 RB5, 27 RB6 (PGC), 28 RB7 (PGD)

## PIC16LF628
designator U?, comment PIC16LF628A
footprint SSOP-20
pins: 1 RA2/AN2/REF, 2 RA3/AN3/CMP1, 3 RA4/T0CKI/CMP2, 4 RA5/MCLR/THV, 5 VSS, 6 VSS, 7 RB0/INT, 8 RB1/RX/DT, 9 RB2/TX/CK, 10 RB3/CCP1, 11 RB4/PGM, 12 RB5, 13 RB6/T1OSO/T1CKI, 14 RB7/T1OSI, 15 VDD, 16 VDD, 17 RA6/OSC2/CLKOUT, 18 RA7/OSC1/CLKIN, 19 RA0/AN0, 20 RA1/AN1

## PIC18F252
designator U?, comment PIC18F252-I/SO
PARTNO: CHP-****; VALUE: PIC18F252-I/SO
footprint SO28
pins: 1 ~{MCLR}/Vpp (in), 2 RA0/AN0 (io), 3 RA1/AN1 (io), 4 RA2/AN2/Vref- (io), 5 RA3/AN3/Vref+ (io), 6 RA4/T0CKI (io), 7 RA5/AN4~{/SS}/LDIN (io), 8 VSS (power), 9 OSC1/CLKI (in), 10 OSC2/CLKO/RA6 (out), 11 RC0/T1OSCO/T1CKI (io), 12 RC1/T1OSCI/CCP2 (io), 13 RC2/CCP1 (io), 14 RC3/SCK/SCL (io), 15 RC4/SDI/SDA (io), 16 RC5/SDO (io), 17 RC6/TX/CK (io), 18 RC7/RX/DT (io), 19 VSS (power), 20 VDD (power), 21 RB0/INT0 (io), 22 RB1/INT1 (io), 23 RB2/INT2 (io), 24 RB3/CCP2 (io), 25 RB4 (io), 26 RB5/PGM (io), 27 RB6/PGC (io), 28 RB7/PGD (io)

## PIC18F2480
designator U?
PARTNO: PIC18F1480; VALUE: PIC18F2480
footprint QFN28 (Footprint not found)
pins: 1 RA2/AN2/Vref- (io), 2 RA3/AN3/Vref+ (io), 3 RA4/T0CKI (io), 4 RA5/AN4/~{SS}/HLVDIN (io), 5 VSS (power), 6 OSC1/CLKI/RA7 (in), 7 OSC2/CLKO/RA6 (out), 8 RC0/T1OSO/T13CKI (io), 9 RC1/T1OSI (io), 10 RC2/CCP1 (io), 11 RC3/SCK/SCL (io), 12 RC4/SDI/SDA (io), 13 RC5/SDO (io), 14 RC6/TX/CK (io), 15 RC7/RX/DT (io), 16 VSS (power), 17 VDD (power), 18 RB0/INT0/AN10 (io), 19 RB1/INT1/AN8 (io), 20 RB2/INT2/CANTX (io), 21 RB3/CANRX (io), 22 RB4/KBIO/AN9 (io), 23 RB5/KBI1/PGM (io), 24 RB6/KBI2/PGC (io), 25 RB7/KBI3/PGD (io), 26 ~{MCLR}/VPP/RE3 (in), 27 RA0/AN0 (io), 28 RA1/AN1 (io)

## PIC18F8680
designator ?
pins: 1 RH2/A18 (io), 2 RH3/A19 (io), 3 RE1/_WR/AD9 (io), 4 RE0/_RD/AD8 (io), 5 RG0/CANTX1 (io), 6 RG1/CANTX2 (io), 7 RG2/CANRX (io), 8 RG3 (io), 9 RG5/_MCLR/Vpp (in), 10 RG4/P1D (io), 11 Vss (power), 12 Vdd (power), 13 RF7/_SS (io), 14 RF6/AN11/C1IN (io), 15 RF5/AN10/C1IN+/CVref (io), 16 RF4/AN9/C2IN- (io), 17 RF3/AN8/C2IN+ (io), 18 RF2/AN7/C1OUT (io), 19 RH7/AN15 (io), 20 RH6/AN14 (io), 21 RH5/AN13 (io), 22 RH4/AN12 (io), 23 RF1/AN6/C2OUT (io), 24 RF0/AN5 (io), 25 AVdd (power), 26 AVss (power), 27 RA3/AN3/VREF+ (io), 28 RA2/AN2/VREF- (io), 29 RA1/AN1 (io), 30 RA0/AN0 (io), 31 Vss (power), 32 Vdd (power), 33 RA5/AN4/LVDIN (io), 34 RA4/T0CKI (io), 35 RC1/T1OSI/CCP2 (io), 36 RC0/T1OSO/T13CKI (io), 37 RC6/TX/CK (io), 38 RC7/RX/DT (io), 39 RJ4/BA0 (io), 40 RJ5/_CE (io), 41 RJ6/_LB (io), 42 RJ7/_UB (io), 43 RC2/CCP1/P1A (io), 44 RC3/SCK/SCL (io), 45 RC4/SDI/SDA (io), 46 RC5/SDO (io), 47 RB7/KBI3/PGD (io), 48 Vdd (power), 49 OSC1/CLKI, 50 OSC2/CLKO/RA6, 51 Vss (power), 52 RB6/KBI2/PGC (io), 53 RB5/KBI1/PGM (io), 54 RB4/KBIO (io), 55 RB3/INT3/CCP2 (io), 56 RB2/INT2 (io), 57 RB1/INT1 (io), 58 RB0/INT0 (io), 59 RJ3/_WRH (io), 60 RJ2/_WRL (io), 61 RJ1/_OE (io), 62 RJ0/ALE (io), 63 RD7/PSP7/AD7 (io), 64 RD6/PSP6/AD6 (io), 65 RD5/PSP5/AD5 (io), 66 RD4/PSP4/AD4 (io), 67 RD3/PSP3/AD3 (io), 68 RD2/PSP2/AD2 (io), 69 RD1/PSP1/AD1 (io), 70 Vss (power), 71 Vdd (power), 72 RD0/PSP0/AD0 (io), 73 RE7/CCP2/AD15 (io), 74 RE6/AD14/P1B (io), 75 RE5/AD13/P1C (io), 76 RE4/AD12 (io), 77 RE3/AD11 (io), 78 RE2/_CS/AD10 (io), 79 RH0/A16 (io), 80 RH1/A17 (io)

## PNP
designator T?  value FMMT551  (hidden comment: PNP)
pins: B, C, E

## PNP_POWER
designator T?, comment value ------  (hidden comment: PNP)
pins: B, C, E, TAB

## POT
designator *
pins: 1  , 2  , 3

## POWER JACK
designator *
pins: 1 IN, 2 SW, 3 GND

## POWER SUPPLY FSK-S5-12U
designator *
pins: 1 AC IN, 2 AC IN, 3 N/C, 4 V NEG, 5 V POS

## PS9701
designator U?
High Speed Opto Isolator
footprint SOT23-5W
pins: 1 AN, 3 CA, 4 GND (power), 5 OUT (oc), 6 VCC (power)

## QBIC
designator ?
pins: 1 VDD (power), 2 ~{INT} (oc), 3 ~{CS} (in), 4 SCLK (in), 5 MOSI (in), 6 MISO (in), 7 ~{RESET} (in), 8 VDDA (power), 9 ~{ARCV} (in), 10 BRCV (in), 11 GNDA (power), 12 ~{BXMT} (out), 13 AXMT (out), 14 GNDD (power), 15 OSCIN (in), 16 OSCOUT (out)

## QUAD NAND
designator *
part A pins: 1, 2, 3, 7 GND, 14 VCC
part B pins: 4, 5, 6
part C pins: 8, 9, 10
part D pins: 11, 12, 13

## QUAD NOR
designator ?
part A pins: 1 (out), 2 (in), 3 (in)
part B pins: 4 (out), 5 (in), 6 (in)
part C pins: 7 (power), 8 (in), 9 (in), 10 (out), 14 (power)
part D pins: 11 (in), 12 (in), 13 (out)

## QuadComparator1
designator U?, comment LM339
PARTNO: CHP-; VALUE: LM339
footprint SO14_012105 (SMT)
part A pins: 2 OUT1 (oc), 3 V+ (power), 4 IN1- (in), 5 IN1+ (in), 12 GND (power)
part B pins: 1 OUT2 (oc), 6 IN2- (in), 7 IN2+ (in)
part C pins: 8 IN3- (in), 9 IN3+ (in), 14 OUT3 (oc)
part D pins: 10 IN4- (in), 11 IN4+ (in), 13 OUT4 (oc)

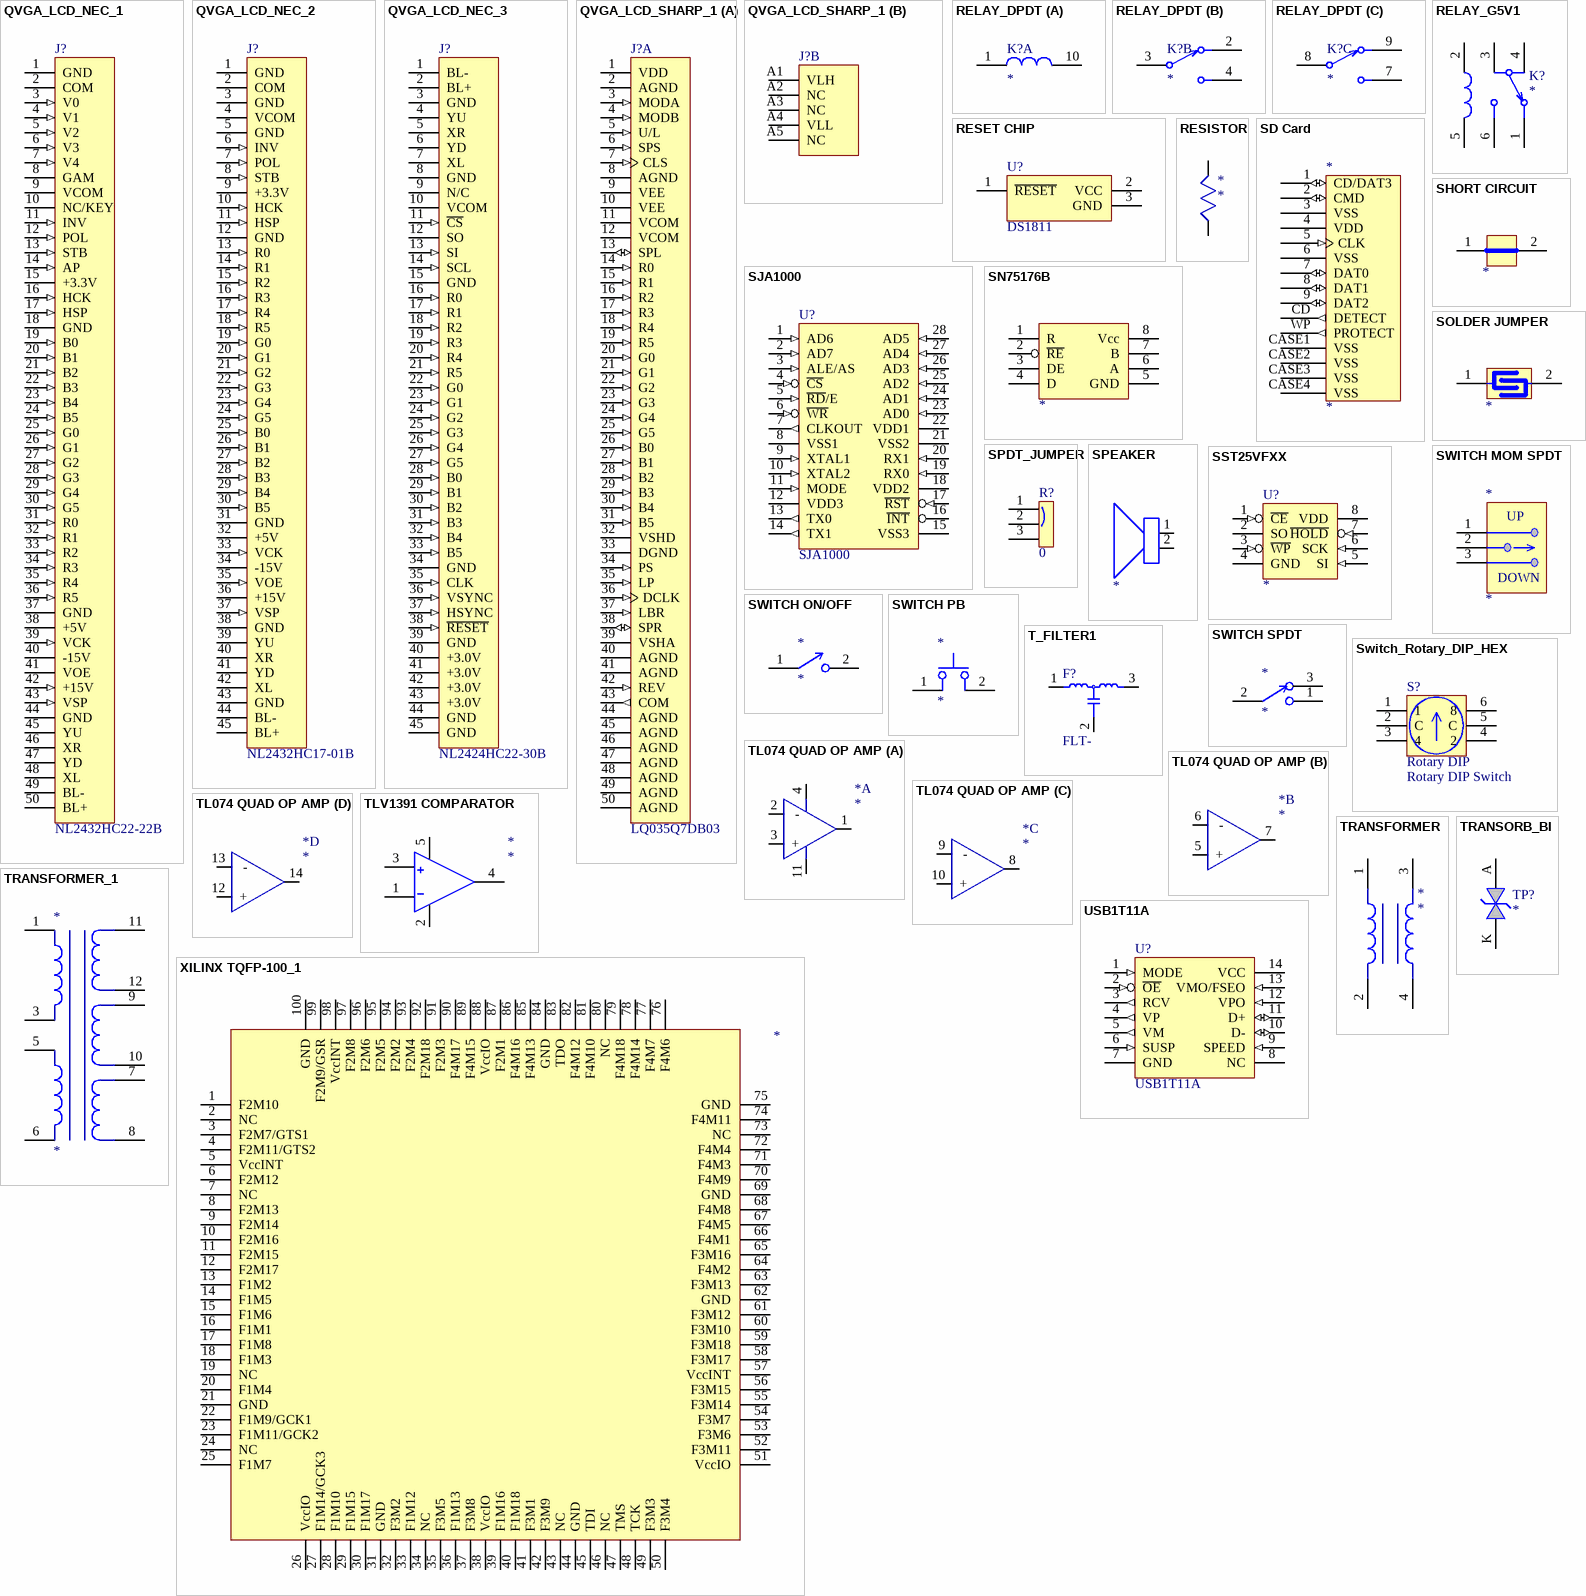
[diagram p5: symbols QVGA_LCD_NEC_1 to XILINX TQFP-100_1]

## QVGA_LCD_NEC_1
designator J?, comment NL2432HC22-22B
PARTNO: NL2432HC22-22B; VALUE: NL2432HC22-22B
pins: 1 GND (power), 2 COM, 3 V0 (in), 4 V1 (in), 5 V2 (in), 6 V3 (in), 7 V4 (in), 8 GAM (power), 9 VCOM (power), 10 NC/KEY (power), 11 INV (in), 12 POL (in), 13 STB (in), 14 AP (in), 15 +3.3V (power), 16 HCK (in), 17 HSP (in), 18 GND (power), 19 B0 (in), 20 B1 (in), 21 B2 (in), 22 B3 (in), 23 B4 (in), 24 B5 (in), 25 G0 (in), 26 G1 (in), 27 G2 (in), 28 G3 (in), 29 G4 (in), 30 G5 (in), 31 R0 (in), 32 R1 (in), 33 R2 (in), 34 R3 (in), 35 R4 (in), 36 R5 (in), 37 GND (power), 38 +5V (power), 39 VCK (in), 40 -15V (power), 41 VOE (power), 42 +15V (in), 43 VSP (in), 44 GND (power), 45 YU, 46 XR, 47 YD, 48 XL, 49 BL- (power), 50 BL+ (power)

## QVGA_LCD_NEC_2
designator J?, comment NL2432HC17-01B
PARTNO: NL2432HC17-01B; VALUE: NL2432HC17-01B
pins: 1 GND (power), 2 COM, 3 GND (power), 4 VCOM, 5 GND (power), 6 INV (in), 7 POL (in), 8 STB (in), 9 +3.3V (power), 10 HCK (in), 11 HSP (in), 12 GND (power), 13 R0 (in), 14 R1 (in), 15 R2 (in), 16 R3 (in), 17 R4 (in), 18 R5 (in), 19 G0 (in), 20 G1 (in), 21 G2 (in), 22 G3 (in), 23 G4 (in), 24 G5 (in), 25 B0 (in), 26 B1 (in), 27 B2 (in), 28 B3 (in), 29 B4 (in), 30 B5 (in), 31 GND (power), 32 +5V (power), 33 VCK (in), 34 -15V (power), 35 VOE (in), 36 +15V (power), 37 VSP (in), 38 GND (power), 39 YU, 40 XR, 41 YD, 42 XL, 43 GND (power), 44 BL-, 45 BL+

## QVGA_LCD_NEC_3
designator J?, comment NL2424HC22-30B
PARTNO: NL2424HC22-30B; VALUE: NL2424HC22-30B
pins: 1 BL-, 2 BL+, 3 GND (power), 4 YU, 5 XR, 6 YD, 7 XL, 8 GND (power), 9 N/C, 10 VCOM, 11 ~{CS} (in), 12 SO (oc), 13 SI (in), 14 SCL (in), 15 GND (power), 16 R0 (in), 17 R1 (in), 18 R2 (in), 19 R3 (in), 20 R4 (in), 21 R5 (in), 22 G0 (in), 23 G1 (in), 24 G2 (in), 25 G3 (in), 26 G4 (in), 27 G5 (in), 28 B0 (in), 29 B1 (in), 30 B2 (in), 31 B3 (in), 32 B4 (in), 33 B5 (in), 34 GND (power), 35 CLK (in), 36 VSYNC (in), 37 HSYNC (in), 38 ~{RESET} (in), 39 GND (power), 40 +3.0V (power), 41 +3.0V, 42 +3.0V, 43 +3.0V (power), 44 GND (power), 45 GND (power)

## QVGA_LCD_SHARP_1
designator J?, comment LQ035Q7DB03
PARTNO: DIS-xxxx; VALUE: LQ035Q7DB03
footprint QVGA_LQ035_03 (Footprint not found)
part A pins: 1 VDD (power), 2 AGND (power), 3 MODA (in), 4 MODB (in), 5 U/L (in), 6 SPS (in), 7 CLS (in), 8 AGND (power), 9 VEE (power), 10 VEE (power), 11 VCOM (power), 12 VCOM (power), 13 SPL (io), 14 R0 (in), 15 R1 (in), 16 R2 (in), 17 R3 (in), 18 R4 (in), 19 R5 (in), 20 G0 (in), 21 G1 (in), 22 G2 (in), 23 G3 (in), 24 G4 (in), 25 G5 (in), 26 B0 (in), 27 B1 (in), 28 B2 (in), 29 B3 (in), 30 B4 (in), 31 B5 (in), 32 VSHD (power), 33 DGND (power), 34 PS (in), 35 LP (in), 36 DCLK (in), 37 LBR (in), 38 SPR (io), 39 VSHA (power), 40 AGND (power), 41 AGND (power), 42 REV (in), 43 COM (out), 44 AGND (power), 45 AGND (power), 46 AGND (power), 47 AGND (power), 48 AGND (power), 49 AGND (power), 50 AGND (power)
part B pins: A1 VLH, A2 NC, A3 NC, A4 VLL, A5 NC

## RELAY_DPDT
designator K?
footprint GS5V-1 RELAY
part A pins: 1 COILA, 10 COILB
part B pins: 2 NC, 3 COMB, 4 NO
part C pins: 7 NO, 8 COMB, 9 NC

## RELAY_G5V1
designator K?
footprint GS5V-1 RELAY
pins: 1 NC, 2 COILA, 3 COMA, 4 COMB, 5 COILB, 6 NO

## RESET CHIP
designator U?, comment DS1811
PARTNO: CHP-; VALUE: DS1811
pins: 1 ~{RESET} (oc), 2 VCC (power), 3 GND (power)

## RESISTOR
designator *
pins: 1  , 2  

## SD Card
designator *
pins: 1 CD/DAT3 (io), 2 CMD (io), 3 VSS (power), 4 VDD (power), 5 CLK (in), 6 VSS (power), 7 DAT0 (io), 8 DAT1 (io), 9 DAT2 (io), CASE1 VSS (power), CASE2 VSS (power), CASE3 VSS (power), CASE4 VSS (power), CD DETECT (out), WP PROTECT (out)

## SHORT CIRCUIT
designator ?
pins: 1, 2

## SJA1000
designator U?
PARTNO: CHP-; VALUE: SJA1000
footprint SO28
pins: 1 AD6 (in), 2 AD7 (in), 3 ALE/AS (in), 4 ~{CS} (in), 5 ~{RD}/E (in), 6 ~{WR} (in), 7 CLKOUT (out), 8 VSS1 (power), 9 XTAL1 (in), 10 XTAL2 (in), 11 MODE (in), 12 VDD3 (power), 13 TX0 (out), 14 TX1 (out), 15 VSS3 (power), 16 ~{INT} (oc), 17 ~{RST} (in), 18 VDD2 (power), 19 RX0 (in), 20 RX1 (in), 21 VSS2 (power), 22 VDD1 (power), 23 AD0 (in), 24 AD1 (in), 25 AD2 (in), 26 AD3 (in), 27 AD4 (in), 28 AD5 (in)

## SN75176B
designator ?
pins: 1 R, 2 ~{RE}, 3 DE, 4 D, 5 GND, 6 A, 7 B, 8 Vcc

## SOLDER JUMPER
designator ?
pins: 1, 2

## SPDT_JUMPER
designator R?, comment value 0  (hidden comment: JUMPER)
pins: 1, 2, 3

## SPEAKER
designator ?
pins: 1, 2

## SST25VFXX
designator U?
Serial FLASH Memory
footprint SO8
footprint WSON8
pins: 1 ~{CE} (in), 2 SO (oc), 3 ~{WP} (in), 4 GND (power), 5 SI (in), 6 SCK (in), 7 ~{HOLD} (in), 8 VDD (power)

## SWITCH MOM SPDT
designator *
pins: 1, 2, 3
text: UP; DOWN

## SWITCH ON/OFF
designator *
pins: 1, 2

## SWITCH PB
designator *
pins: 1, 2

## SWITCH SPDT
designator *
pins: 1, 2, 3

## Switch_Rotary_DIP_HEX
designator S?, comment Rotary DIP  value Rotary DIP Switch
PART NO: NEW
pins: 1, 2 C, 3 4, 4 2, 5 C, 6 8

## T_FILTER1
designator F?, comment FLT-
PARTNO: FLT-; VALUE: FLT-
footprint FILTER1 (Footprint not found)
pins: 1, 2, 3

## TL074 QUAD OP AMP
designator *
part A pins: 1, 2  -, 3 +, 4 VCC+, 11 VCC-
part B pins: 5 +, 6  -, 7
part C pins: 8, 9  -, 10 +
part D pins: 12 +, 13  -, 14

## TLV1391 COMPARATOR
designator *
pins: 1 IN1-, 2 GND (power), 3 IN1+, 4 OUT1 (oc), 5 V+ (power)

## TRANSFORMER
designator *
pins: 1, 2, 3, 4

## TRANSFORMER_1
designator *
pins: 1, 3, 5, 6, 7, 8, 9, 10, 11, 12

## TRANSORB_BI
designator TP?
pins: A, K

## USB1T11A
designator U?
PARTNO: CHP-USB1T11A; VALUE: USB1T11A
footprint Model Name (Model Description)
pins: 1 MODE (in), 2 ~{OE} (in), 3 RCV (out), 4 VP (out), 5 VM (out), 6 SUSP (in), 7 GND (power), 8 NC, 9 SPEED (in), 10 D- (io), 11 D+ (io), 12 VPO (in), 13 VMO/FSEO (in), 14 VCC (power)

## XILINX TQFP-100_1
designator ?
pins: 1 F2M10, 2 NC, 3 F2M7/GTS1, 4 F2M11/GTS2, 5 VccINT, 6 F2M12, 7 NC, 8 F2M13, 9 F2M14, 10 F2M16, 11 F2M15, 12 F2M17, 13 F1M2, 14 F1M5, 15 F1M6, 16 F1M1, 17 F1M8, 18 F1M3, 19 NC, 20 F1M4, 21 GND, 22 F1M9/GCK1, 23 F1M11/GCK2, 24 NC, 25 F1M7, 26 VccIO, 27 F1M14/GCK3, 28 F1M10, 29 F1M15, 30 F1M17, 31 GND, 32 F3M2, 33 F1M12, 34 NC, 35 F3M5, 36 F1M13, 37 F3M8, 38 VccIO, 39 F1M16, 40 F1M18, 41 F3M1, 42 F3M9, 43 NC, 44 GND, 45 TDI, 46 NC, 47 TMS, 48 TCK, 49 F3M3, 50 F3M4, 51 VccIO, 52 F3M11, 53 F3M6, 54 F3M7, 55 F3M14, 56 F3M15, 57 VccINT, 58 F3M17, 59 F3M18, 60 F3M10, 61 F3M12, 62 GND, 63 F3M13, 64 F4M2, 65 F3M16, 66 F4M1, 67 F4M5, 68 F4M8, 69 GND, 70 F4M9, 71 F4M3, 72 F4M4, 73 NC, 74 F4M11, 75 GND, 76 F4M6, 77 F4M7, 78 F4M14, 79 F4M18, 80 NC, 81 F4M10, 82 F4M12, 83 TDO, 84 GND, 85 F4M13, 86 F4M16, 87 F2M1, 88 VccIO, 89 F4M15, 90 F4M17, 91 F2M3, 92 F2M18, 93 F2M4, 94 F2M2, 95 F2M5, 96 F2M6, 97 F2M8, 98 VccINT, 99 F2M9/GSR, 100 GND